# Altium schematic symbol library CH341A.SchLib: 3 symbols
Pins are listed as number, name and electrical type; pins without a type are passive.

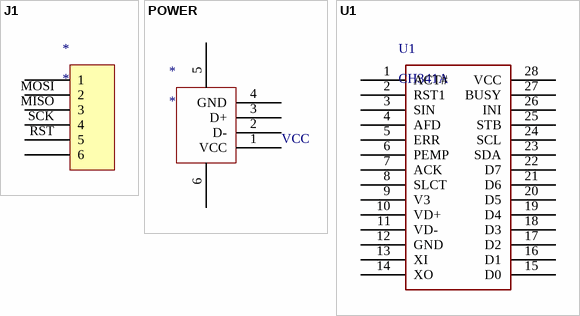
[diagram p0: symbols J1 to U1]

## J1
designator *
pins: ?1 1, ?2 6, MISO 3, MOSI 2, RST 5, SCK 4

## POWER
designator *
pins: 1 VCC, 2 D-, 3 D+, 4 GND, 5, 6

## U1
designator U1, comment CH341A
pins: 1 ACT#, 2 RST1, 3 SIN, 4 AFD, 5 ERR, 6 PEMP, 7 ACK, 8 SLCT, 9 V3, 10 VD+, 11 VD-, 12 GND, 13 XI, 14 XO, 15 D0, 16 D1, 17 D2, 18 D3, 19 D4, 20 D5, 21 D6, 22 D7, 23 SDA, 24 SCL, 25 STB, 26 INI, 27 BUSY, 28 VCC